# Altium footprint library Battery.PcbLib: 44 footprints (part 3 of 3)
Each footprint in its own frame and in the unit in brackets; x right, y up, seen from the top. Pads: shape width x height; smd on the part's side, far side on the other; paste and mask are expansions set on the pad; w line width, h text height; cw(c..) or ccw(c..) is an arc to the next point about the centre after c.
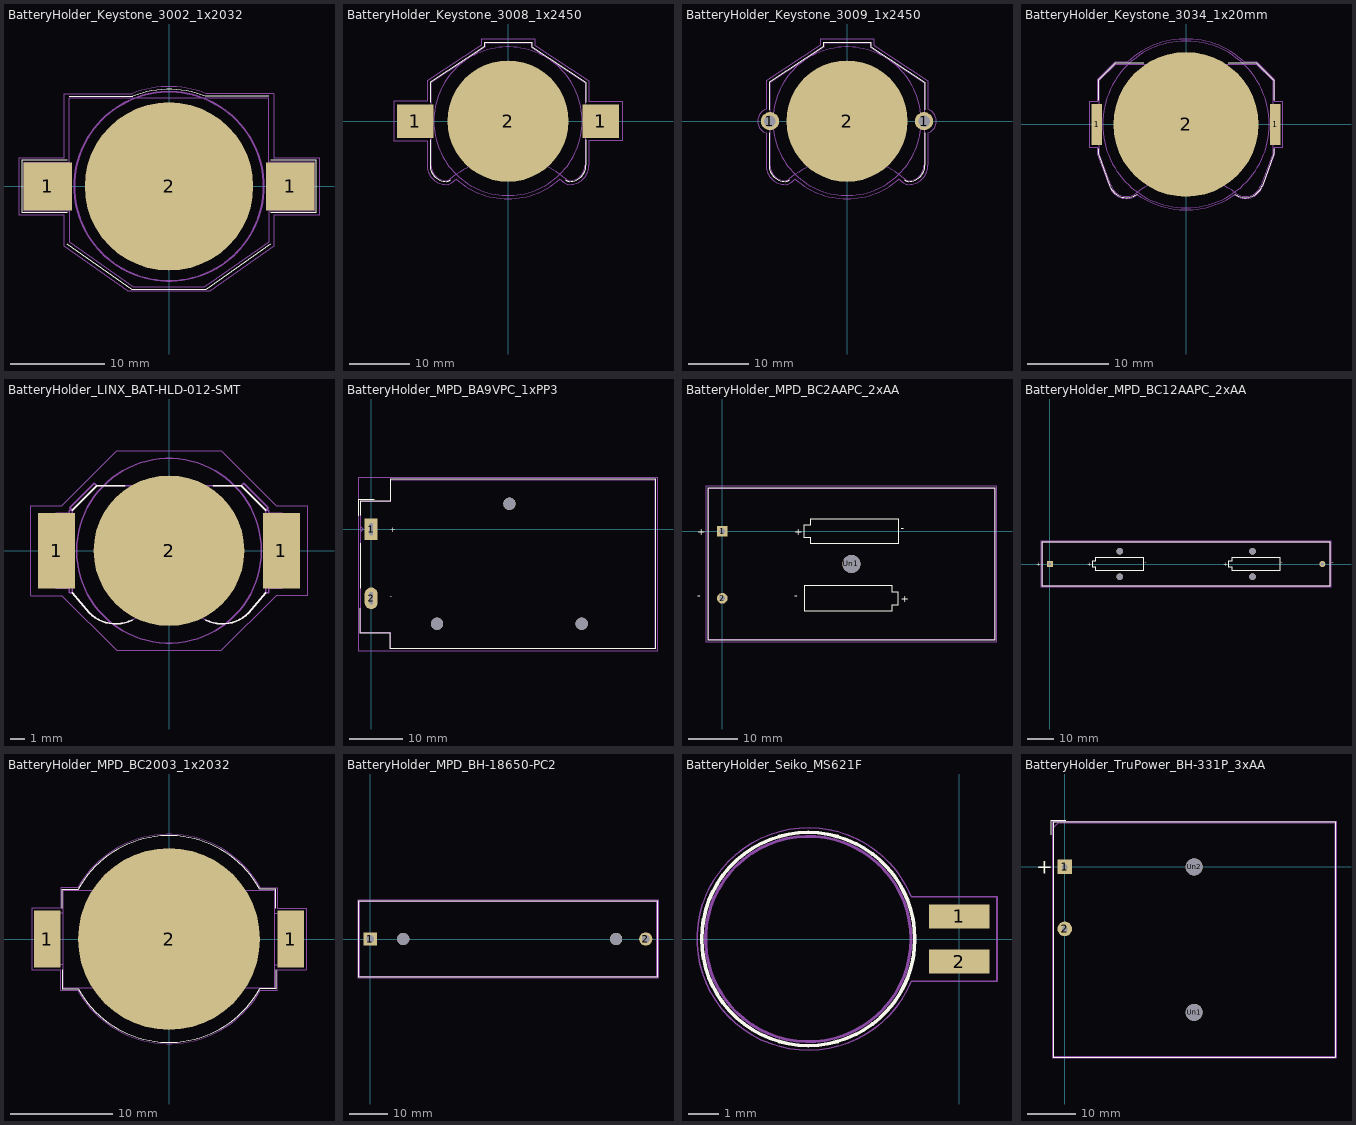
[diagram p2: the footprints below, top view; thin cyan lines are the x and y axes]

## BatteryHolder_Keystone_3002_1x2032 [mm]
pads (3):
  rect 5.1x5.1 smd: 1(-12.8,0) 1(12.8,0)
  round 17.8 smd: 2(0,0)
F.SilkS:
  lines w0.12: -10.8,-6.05 -3.95,-10.85 3.95,-10.85 10.75,-6.05 ; -10.75,-2.75 -15.55,-2.75 -15.55,2.75 -10.75,2.75 ; -10.55,9.5 -3.85,9.5 ; -3.846,9.501 cw(c0,0) 3.85,9.5 10.55,9.5 ; 10.75,-2.75 15.55,-2.75 15.55,2.75 10.75,2.75
Dwgs.User:
  circle w0.2: c0,0 r10
F.CrtYd:
  lines w0.05: -15.85,-3.05 -15.85,3.05 -11.05,3.05 -11.05,9.8 -3.9,9.8 cw(c0,0) 3.9,9.8 11.05,9.8 11.05,3.05 15.85,3.05 15.85,-3.05 11.05,-3.05 11.05,-6.35 4.3,-11.1 -4.3,-11.1 -11.05,-6.35 -11.05,-3.05 -15.85,-3.05
F.Fab:
  lines w0.1: -15.35,-2.55 -10.55,-2.55 -10.55,-5.85 -3.8,-10.6 3.8,-10.6 10.55,-5.9 10.55,-2.55 15.35,-2.55 15.35,2.55 10.55,2.55 10.55,9.3 -10.55,9.3 -10.55,2.55 -15.35,2.55 -15.35,-2.55
  text "'.Designator'" at -13.197,-10.54 h1

## BatteryHolder_Keystone_3008_1x2450 [mm]
pads (3):
  rect 6x5.5 smd: 1(-15.3,0) 1(15.3,0)
  round 20 smd: 2(0,0)
F.SilkS:
  lines w0.12: -12.85,-7.3 -12.85,-3.1 ; -12.85,-7.25 ccw(c-10.15,-7.25) -10.15,-9.95 ccw(c-10.15,-9) -9.478,-9.672 ; -12.85,3.1 -12.85,6.4 -3.95,12.25 -3.95,13.05 3.95,13.05 3.95,12.25 12.85,6.4 12.85,3.1 ; 9.478,-9.672 ccw(c10.15,-9) 10.15,-9.95 ccw(c10.15,-7.25) 12.85,-7.25 ; 12.85,-7.3 12.85,-3.1
Dwgs.User:
  circle w0.15: c0,0 r12.25
F.CrtYd:
  lines w0.05: -13.35,-7.3 -13.35,-3.25 -18.8,-3.25 -18.8,3.25 -13.35,3.25 -13.35,6.7 -4.45,12.55 -4.45,13.55 4.45,13.55 4.45,12.55 13.35,6.7 13.35,3.25 18.8,3.25 18.8,-3.25 13.35,-3.25 13.35,-7.3 ; -13.35,-7.25 ccw(c-10.15,-7.25) -10.15,-10.45 ccw(c-10.15,-9) -9.125,-10.025 ; -9.15,-10.05 cw(c-0.001,-20.999) -8.524,-9.556 ; -8.515,-9.557 ccw(c0,0) 0,-12.8 ccw(c0,0) 8.515,-9.557 ; 8.524,-9.556 cw(c0.001,-20.999) 9.15,-10.05 ; 9.125,-10.025 ccw(c10.15,-9) 10.15,-10.45 ccw(c10.15,-7.25) 13.35,-7.25
F.Fab:
  lines w0.1: -12.7,-7.3 -12.7,6.35 -3.8,12.2 -3.8,12.9 3.8,12.9 3.8,12.2 12.7,6.35 12.7,-7.3 ; -12.7,-7.25 ccw(c-10.15,-7.25) -10.15,-9.8 ccw(c-10.15,-9) -9.584,-9.566 ; -9.6,-9.58 cw(c0,-21) 9.579,-9.563 ; 9.584,-9.566 ccw(c10.15,-9) 10.15,-9.8 ccw(c10.15,-7.25) 12.7,-7.25
  text "'.Designator'" at -4.047,-0.84 h1

## BatteryHolder_Keystone_3009_1x2450 [mm]
pads (3):
  round 3 hole 1.9: 1(-12.7,0) 1(12.7,0)
  round 20 smd: 2(0,0)
F.SilkS:
  lines w0.12: -12.85,-7.3 -12.85,-1.9 ; -12.85,-7.25 ccw(c-10.15,-7.25) -10.15,-9.95 ccw(c-10.15,-9) -9.478,-9.672 ; -12.85,1.9 -12.85,6.4 -3.95,12.25 -3.95,13.05 3.95,13.05 3.95,12.25 12.85,6.4 12.85,1.9 ; 9.478,-9.672 ccw(c10.15,-9) 10.15,-9.95 ccw(c10.15,-7.25) 12.85,-7.25 ; 12.85,-7.3 12.85,-1.9
Dwgs.User:
  circle w0.15: c0,0 r12.25
F.CrtYd:
  lines w0.05: -13.354,1.949 ccw(c-12.7,0) -13.35,-1.95 -13.35,-7.3 ; -13.35,-7.25 ccw(c-10.15,-7.25) -10.15,-10.45 ccw(c-10.15,-9) -9.125,-10.025 ; -13.35,1.95 -13.35,6.7 -4.45,12.55 -4.45,13.55 4.45,13.55 4.45,12.55 13.35,6.7 13.35,1.95 ; -9.15,-10.05 cw(c-0.001,-20.999) -8.524,-9.556 ; -8.515,-9.557 ccw(c0,0) 0,-12.8 ccw(c0,0) 8.515,-9.557 ; 8.524,-9.556 cw(c0.001,-20.999) 9.15,-10.05 ; 9.125,-10.025 ccw(c10.15,-9) 10.15,-10.45 ccw(c10.15,-7.25) 13.35,-7.25 ; 13.35,-7.3 13.35,-1.95 ccw(c12.7,0) 13.354,1.949
F.Fab:
  lines w0.1: -12.7,-7.3 -12.7,6.35 -3.8,12.2 -3.8,12.9 3.8,12.9 3.8,12.2 12.7,6.35 12.7,-7.3 ; -12.7,-7.25 ccw(c-10.15,-7.25) -10.15,-9.8 ccw(c-10.15,-9) -9.584,-9.566 ; -9.6,-9.58 cw(c0,-21) 9.579,-9.563 ; 9.584,-9.566 ccw(c10.15,-9) 10.15,-9.8 ccw(c10.15,-7.25) 12.7,-7.25
  text "'.Designator'" at -4.047,-0.84 h1

## BatteryHolder_Keystone_3034_1x20mm [mm]
pads (3):
  rect 1.27x5.08 smd: 1(-10.985,0) 1(10.985,0)
  round 17.8 smd: 2(0,0)
F.SilkS:
  lines w0.12: -10.78,-3 -10.78,-3.63 -9.34,-7.58 ccw(c-7.31,-6.85) -6.003,-8.567 ; -10.78,3 -10.78,5.46 -8.7,7.54 -5.2,7.54 ; 5.2,7.54 8.7,7.54 10.78,5.46 10.78,3 ; 6,-8.55 ccw(c7.31,-6.85) 9.325,-7.588 ; 9.34,-7.58 10.78,-3.63 10.78,-3
Dwgs.User:
  circle w0.15: c0,0 r10.25
F.CrtYd:
  lines w0.05: -9.44,-7.62 -10.88,-3.64 -10.88,-2.79 -11.87,-2.79 -11.87,2.79 -10.88,2.79 -10.88,5.5 -8.74,7.64 -7.2,7.64 cw(c0,0) 7.2,7.64 8.74,7.64 10.88,5.5 10.88,2.79 11.87,2.79 11.87,-2.79 10.88,-2.79 10.88,-3.64 9.43,-7.63 ; -9.43,-7.62 ccw(c-7.31,-6.85) -5.957,-8.655 ; -5.96,-8.64 ccw(c0,0) 5.945,-8.65 ; 5.96,-8.64 ccw(c7.31,-6.85) 9.415,-7.621
F.Fab:
  lines w0.1: -6.096,-8.439 cw(c-7.31,-6.85) -9.19,-7.53 -10.63,-3.6 -10.63,5.4 -8.64,7.39 8.64,7.39 10.63,5.4 10.63,-3.6 9.19,-7.53 ; -6.095,-8.426 cw(c0,-16.36) 6.1,-8.43 ccw(c7.31,-6.85) 9.181,-7.529
  text "'.Designator'" at -4.047,2.06 h1

## BatteryHolder_LINX_BAT-HLD-012-SMT [mm]
pads (3):
  rect 2.5x5.1 smd: 1(-7.6,0) 1(7.6,0)
  round 10.2 smd: 2(0,0)
F.SilkS:
  lines w0.12: -6.55,-2.85 -5.4,-4.2 ccw(c-3.6,-2.4) -2.504,-4.698 ; -6.55,2.75 -4.9,4.4 -3,4.4 ; 2.502,-4.696 ccw(c3.6,-2.4) 5.4,-4.2 6.55,-2.85 ; 3,4.4 4.9,4.4 6.55,2.75
F.CrtYd:
  lines w0.05: -9.35,-3.05 -7.25,-3.05 -3.55,-6.75 3.55,-6.75 7.25,-3.05 9.35,-3.05 9.35,3.05 7.25,3.05 3.55,6.75 -3.55,6.75 -7.25,3.05 -9.35,3.05 -9.35,-3.05
F.Fab:
  circle w0.1: c0,0 r6.25
  lines w0.1: -6.75,-2.55 -7.65,-2.55 -7.65,-0.55 -6.75,-0.55 ; -6.75,0.55 -7.65,0.55 -7.65,2.55 -6.75,2.55 ; 6.75,-2.55 7.65,-2.55 7.65,-0.55 6.75,-0.55 ; 6.75,0.55 7.65,0.55 7.65,2.55 6.75,2.55 ; -6.55,-2.85 -6.75,-2.85 -6.75,2.75 -6.55,2.75 ; -6.55,-2.85 -5.4,-4.2 ccw(c-3.6,-2.4) -1.8,-4.2 cw(c0,-6) 1.8,-4.2 ccw(c3.6,-2.4) 5.4,-4.2 6.55,-2.85 ; -6.55,-2.85 -6.55,2.75 ; -6.55,2.75 -6.7,2.9 -5.05,4.55 -4.9,4.4 ; -6.55,2.75 -4.9,4.4 ; -4.9,4.4 4.9,4.4 ; 4.9,4.4 5.05,4.55 6.7,2.9 6.55,2.75 ; 4.9,4.4 6.55,2.75 ; 6.55,-2.85 6.75,-2.85 6.75,2.75 6.55,2.75 ; 6.55,-2.85 6.55,2.75
  text "'.Designator'" at -4.047,-0.84 h1

## BatteryHolder_MPD_BA9VPC_1xPP3 [mm]
pads (5):
  rect 2.41x4.02 hole 2.27 slot 0.66 at 0 deg: 1(0,0)
  rrect100% 2.41x4.02 hole 2.27 slot 0.66 at 0 deg: 2(0,-12.88)
  round 2.3 hole 2.29: Un1(12.29,-17.62) Un2(39.26,-17.62) Un3(25.78,4.73)
F.SilkS:
  lines w0.12: -2.4,2.55 -2.4,5.55 0.6,5.55 ; -2.06,-14.7 -2.06,-19.38 3.54,-19.38 3.54,-22.28 53.1,-22.28 53.1,9.31 3.54,9.31 3.54,5.21 -2.06,5.21 -2.06,2.65 ; -2.06,-11 -2.06,-2.65
  text "+" at 3.45,-0.578 h1
  text "-" at 3.45,-13.03 h1
F.CrtYd:
  lines w0.05: -2.45,-22.67 -2.45,9.7 53.49,9.7 53.49,-22.67 -2.45,-22.67
F.Fab:
  lines w0.1: -1.95,-0.45 -1.5,0 -1.95,0.45 ; -1.95,-19.27 3.65,-19.27 3.65,-22.17 52.99,-22.17 52.99,9.2 3.65,9.2 3.65,5.1 -1.95,5.1 -1.95,-19.27
  text "'.Designator'" at 21.703,-7.34 h1

## BatteryHolder_MPD_BC2AAPC_2xAA [mm]
pads (3):
  rect 2.17x2.17 hole 1.17: 1(0,0)
  round 2.17 hole 1.17: 2(0,-13.59)
  round 3.65 hole 3.65: Un1(26.16,-6.63)
F.SilkS:
  lines w0.12: -2.94,-21.99 -2.94,8.71 55.26,8.71 55.26,-21.99 -2.94,-21.99 ; 16.635,-16.13 16.635,-11.05 34.415,-11.05 34.415,-12.32 35.685,-12.32 35.685,-14.86 34.415,-14.86 34.415,-16.13 16.635,-16.13 ; 16.635,-1.27 17.905,-1.27 17.905,-2.54 35.685,-2.54 35.685,2.54 17.905,2.54 17.905,1.27 16.635,1.27 16.635,-1.27
  text "-" at -5.133,-13.74 h1.5
  text "-" at 36.162,-0.15 h1.5
  text "+" at 14.572,-0.793 h1.5
  text "-" at 14.572,-13.74 h1.5
  text "+" at -5.133,-0.793 h1.5
  text "+" at 36.162,-14.383 h1.5
F.CrtYd:
  lines w0.05: -3.34,-22.39 -3.34,9.11 55.66,9.11 55.66,-22.39 -3.34,-22.39
F.Fab:
  lines w0.1: -2.84,-21.89 -2.84,8.61 55.16,8.61 55.16,-21.89 -2.84,-21.89
  text "'.Designator'" at 22.113,-7.47 h1

## BatteryHolder_MPD_BC12AAPC_2xAA [mm]
pads (6):
  rect 2.23x2.23 hole 1.23: 1(0,0)
  round 2.23 hole 1.23: 2(102,0)
  round 2.5 hole 2.5: Un1(26.15,-4.75) Un2(75.85,4.75) Un3(26.15,4.75) Un4(75.85,-4.75)
F.SilkS:
  lines w0.12: -3,-8.2 105,-8.2 105,8.2 -3,8.2 -3,-8.2 ; 15.975,-1.27 17.245,-1.27 17.245,-2.54 35.025,-2.54 35.025,2.54 17.245,2.54 17.245,1.27 15.975,1.27 15.975,-1.27 ; 66.975,-1.27 66.975,1.27 68.245,1.27 68.245,2.54 86.025,2.54 86.025,-2.54 68.245,-2.54 68.245,-1.27 66.975,-1.27
  text "+" at 13.912,-0.793 h1.5
  text "+" at -5.193,-0.793 h1.5
  text "-" at 105.607,-0.15 h1.5
  text "-" at 35.502,-0.15 h1.5
  text "-" at 86.502,-0.15 h1.5
  text "+" at 64.912,-0.793 h1.5
F.CrtYd:
  lines w0.05: -3.4,-8.6 -3.4,8.6 105.4,8.6 105.4,-8.6 -3.4,-8.6
F.Fab:
  lines w0.1: -2.9,-8.1 104.9,-8.1 104.9,8.1 -2.9,8.1 -2.9,-8.1
  text "'.Designator'" at 46.953,-0.84 h1

## BatteryHolder_MPD_BC2003_1x2032 [mm]
pads (3):
  rect 2.6x5.56 smd: 1(-11.905,0) 1(11.905,0)
  round 17.8 smd: 2(0,0)
F.SilkS:
  lines w0.12: -10.47,-3 -10.47,-4.885 -8.863,-4.885 ccw(c0,0) 8.865,-4.881 ; -10.47,3 -10.47,4.885 -8.863,4.885 cw(c0,0) 8.863,4.885 10.47,4.885 10.47,3 ; 8.863,-4.885 10.47,-4.885 10.47,-3
F.CrtYd:
  lines w0.05: -8.94,5.01 -10.6,5.01 -10.6,3.03 -13.45,3.03 -13.45,-3.03 -10.6,-3.03 -10.6,-5.01 -8.94,-5.01 ccw(c0,0) 8.925,-5.036 ; -8.934,5.02 cw(c0,0) 8.94,5.01 10.6,5.01 10.6,3.03 13.45,3.03 13.45,-3.03 10.6,-3.03 10.6,-5.01 8.94,-5.01
F.Fab:
  lines w0.1: -10.35,-2.525 -12,-2.525 -12.7,-1.825 -12.7,1.825 -12,2.525 -10.35,2.525 ; 10.35,-2.525 12,-2.525 12.7,-1.825 12.7,1.825 12,2.525 10.35,2.525 ; -10.35,-4.765 -10.35,4.765 10.35,4.765 10.35,-4.765 -10.35,-4.765
  text "'.Designator'" at -4.047,-0.84 h1

## BatteryHolder_MPD_BH-18650-PC2 [mm]
pads (4):
  rect 3.5x3.5 hole 2: 1(0,0)
  round 3.5 hole 2: 2(72,0)
  round 3.2 hole 3.2: Un1(8.645,0) Un2(64.255,0)
F.SilkS:
  lines w0.12: -3,-10.05 -3,10.05 75,10.05 75,-10.05 -3,-10.05
F.CrtYd:
  lines w0.05: -3.2,-10.25 75.2,-10.25 75.2,10.25 -3.2,10.25 -3.2,-10.25
F.Fab:
  lines w0.1: -2.8,-9.85 74.8,-9.85 74.8,9.85 -2.8,9.85 -2.8,-9.85
  text "'.Designator'" at 31.953,1.56 h1

## BatteryHolder_Seiko_MS621F [mm]
pads (2):
  rect 2x0.8 smd: 1(0,0.75) 2(0,-0.75)
F.SilkS:
  circle w0.12: c-5,0 r3.53
F.CrtYd:
  lines w0.05: -1.591,1.403 ccw(c-5,0) -1.59,-1.4 1.25,-1.4 1.25,1.4 -1.59,1.4
F.Fab:
  circle w0.1: c-5,0 r3.4
  lines w0.1: 0.9,-1 0.9,-0.5 ; 0.9,0.5 0.9,1
  text "'.Designator'" at -3.073,-0.668 h0.75

## BatteryHolder_TruPower_BH-331P_3xAA [mm]
pads (4):
  rect 3x3 hole 1.2: 1(0,0)
  round 3 hole 1.2: 2(0,-12.8)
  round 3.5 hole 3.5: Un1(26.7,-30) Un2(26.7,0)
F.SilkS:
  lines w0.12: -2.8,6.65 -2.8,9.65 0.2,9.65 ; -2.42,-39.27 55.82,-39.27 55.82,9.27 -2.42,9.27 -2.42,-39.27
  text "+" at -5.935,-1.435 h3
F.CrtYd:
  lines w0.05: -2.55,-39.4 55.95,-39.4 55.95,9.4 -2.55,9.4 -2.55,-39.4
F.Fab:
  lines w0.1: -2.3,-39.15 55.7,-39.15 55.7,9.15 -1.3,9.15 -2.3,8.15 -2.3,-39.15
  text "'.Designator'" at 22.653,-15.84 h1